# Altium footprint library TE 282834-6.PCBLIB: 1 footprints
Each footprint in its own frame and in the unit in brackets; x right, y up, seen from the top. Pads: shape width x height; smd on the part's side, far side on the other; paste and mask are expansions set on the pad; w line width, h text height; cw(c..) or ccw(c..) is an arc to the next point about the centre after c.
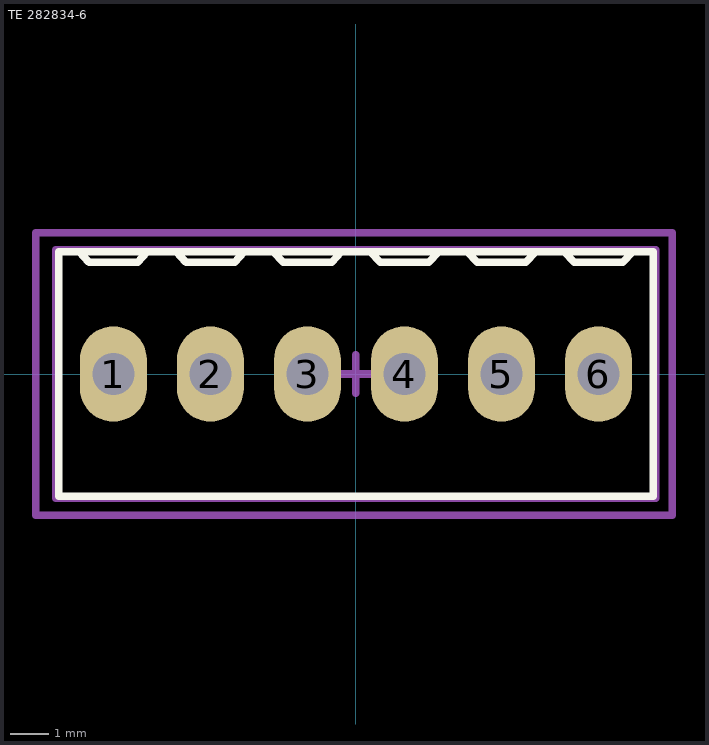
[diagram p0: the footprint, top view; thin cyan lines are the x and y axes]

## TE 282834-6 [mm]
height 10
pads (6):
  oval 1.75x2.5 hole 1.1: 1(-6.35,0) 2(-3.81,0) 3(-1.27,0) 4(1.27,0) 5(3.81,0) 6(6.35,0)
Top Overlay:
  lines w0.2: -7.239,3.2 -6.985,2.921 -5.715,2.921 -5.461,3.2 ; -4.699,3.2 -4.445,2.921 -3.175,2.921 -2.921,3.2 ; -2.159,3.2 -1.905,2.921 -0.635,2.921 -0.381,3.2 ; 0.381,3.2 0.635,2.921 1.905,2.921 2.159,3.2 ; 2.921,3.2 3.175,2.921 4.445,2.921 4.699,3.2 ; 5.461,3.2 5.715,2.921 6.985,2.921 7.239,3.2 ; -7.78,-3.2 -7.78,3.2 7.78,3.2 7.78,-3.2 -7.68,-3.2 -7.78,-3.2
Mechanical 13:
  lines w0.2: -7.85,-3.25 7.85,-3.25 7.85,3.25 -7.85,3.25 -7.85,-3.25
Mechanical 15:
  lines w0.2: -0.5,0 0.5,0 ; 0,-0.5 0,0.5 ; -8.38,-3.7 -8.38,-3.3 -8.38,3.7 8.28,3.7 8.28,-2.9 8.28,-3.7 -8.38,-3.7
3D body "TE Term Block 6port 282834-6-c-3d.STEP": height 10, standoff -3.4, extent -7.85,-3.25 7.85,3.25